# Altium footprint library Molex_52437_2471_0.PcbLib: 1 footprints
Each footprint in its own frame and in the unit in brackets; x right, y up, seen from the top. Pads: shape width x height; smd on the part's side, far side on the other; paste and mask are expansions set on the pad; w line width, h text height; cw(c..) or ccw(c..) is an arc to the next point about the centre after c.
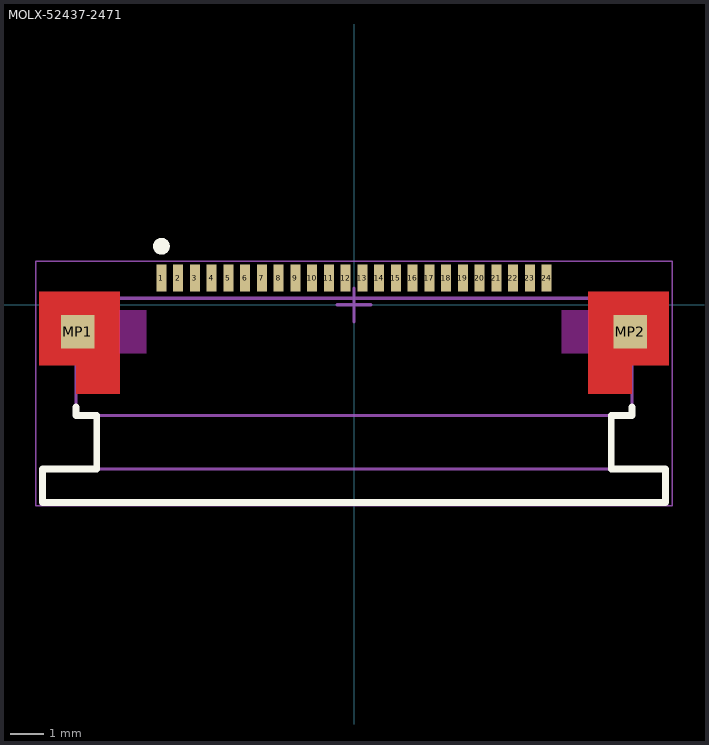
[diagram p0: the footprint, top view; thin cyan lines are the x and y axes]

## MOLX-52437-2471 [mm] "FPC Connector, 24-Leads, Right Angle, Pitch 0.5 mm, SMT"
height 2.052
pads (26):
  rect 0.3x0.8 smd: 1(-5.75,0.8) 2(-5.25,0.8) 3(-4.75,0.8) 4(-4.25,0.8) 5(-3.75,0.8) 6(-3.25,0.8) 7(-2.75,0.8) 8(-2.25,0.8) 9(-1.75,0.8) 10(-1.25,0.8) 11(-0.75,0.8) 12(-0.25,0.8) 13(0.25,0.8) 14(0.75,0.8) 15(1.25,0.8) 16(1.75,0.8) 17(2.25,0.8) 18(2.75,0.8) 19(3.25,0.8) 20(3.75,0.8) 21(4.25,0.8) 22(4.75,0.8) 23(5.25,0.8) 24(5.75,0.8)
  rect 1x1 smd: MP1(-8.25,-0.8) MP2(8.25,-0.8)
Top Layer:
  region: 7,0.4 9.4,0.4 9.4,-1.8 8.3,-1.8 8.3,-2.65 7,-2.65
  region: -7,0.4 -9.4,0.4 -9.4,-1.8 -8.3,-1.8 -8.3,-2.65 -7,-2.65
Top Overlay:
  circle w0.25: c-5.75,1.75 r0.125
  lines w0.2: -8.301,-3.05 -8.301,-3.3 -7.681,-3.3 -7.681,-4.9 -9.3,-4.9 ; 8.3,-3.05 8.3,-3.3 7.679,-3.3 7.679,-4.9 9.3,-4.9 ; -9.3,-4.9 -9.3,-4.9 ; -9.3,-4.9 -9.3,-5.9 9.3,-5.9 9.3,-4.9 ; 9.3,-4.9 9.3,-4.9
Keep-Out Layer:
  rectangle: 6.2,-1.45 7,-0.15
  region: -6.2,-0.15 -7,-0.15 -7,-1.45 -6.2,-1.45
Mechanical 13:
  lines w0.1: -7.681,-4.9 -9.3,-4.9 -9.3,-5.9 9.3,-5.9 9.3,-4.9 7.679,-4.9 ; -7.681,-4.9 -7.681,-3.3 ; -7.681,-4.9 7.679,-4.9 ; -7.681,-3.3 -8.301,-3.3 -8.301,0.2 8.3,0.2 8.3,-3.3 7.679,-3.3 ; -7.681,-3.3 7.679,-3.3 ; 7.679,-4.9 7.679,-3.3
Mechanical 15:
  lines w0.05: -9.5,-6 9.5,-6 9.5,1.3 -9.5,1.3 -9.5,-6
  lines w0.1: -0.5,0 0.5,0 ; 0,-0.5 0,0.5
3D body: height 2.05, standoff 0.01, extent -9.3,-5.9 9.3,0.9